# Altium schematic symbol library TestPoints.SchLib: 6 symbols
Pins are listed as number, name and electrical type; pins without a type are passive.

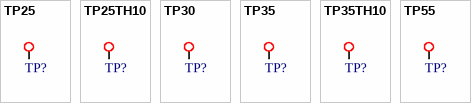
[diagram p0: symbols TP25 to TP55]

## TP25
designator TP?, comment TESTPOINT  (value not drawn)  (no BOM)
0.025" Round Test Point; Part Number: 1613; Part Name: Testpoint
footprint TP R25
pins: 1

## TP25TH10
designator TP?, comment TESTPOINT  (value not drawn)  (no BOM)
0.025"/0.010" Thru Hole Test Point; Part Number: 1616; Part Name: Testpoint
footprint TP R25 TH10
pins: 1

## TP30
designator TP?, comment TESTPOINT  (value not drawn)  (no BOM)
0.030" Round Test Point; Part Number: 1614; Part Name: Testpoint
footprint TP R30
pins: 1

## TP35
designator TP?, comment TESTPOINT  (value not drawn)  (no BOM)
0.035" Round Testpoing; Part Number: 1615; Part Name: Testpoint
footprint TP R35
pins: 1

## TP35TH10
designator TP?, comment TESTPOINT  (value not drawn)  (no BOM)
0.035"/0.015" Thru Hole Test Point; Part Number: 1617; Part Name: Testpoint
footprint TP R35 TH15
pins: 1

## TP55
designator TP?, comment TESTPOINT  (value not drawn)  (no BOM)
0.055" Round Testpoint; Part Number: 1619; Part Name: Testpoint
footprint TP R55
pins: 1